# EAGLE library part LTC3557 (library SmartWatch)
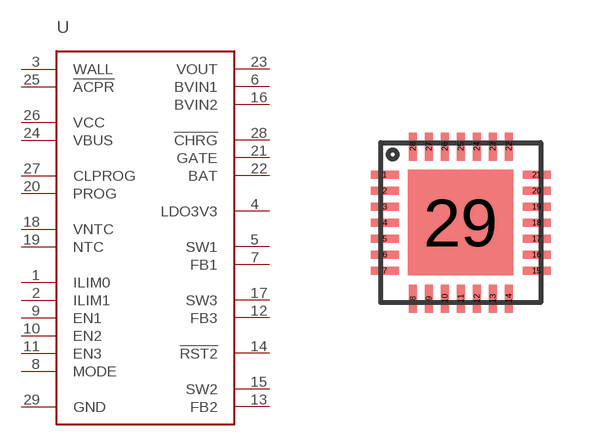
[diagram p4: symbol with the pads of 28QFN4X4; footprint 28QFN4X4]

Designator prefix -

## LTC3557  [28QFN4X4]
1  ILIM0
2  ILIM1
3  WALL
4  LDO3V3
5  SW1
6  BVIN1
7  FB1
8  MODE
9  EN1
10  EN2
11  EN3
12  FB3
13  FB2
14  !RST2
15  SW2
16  BVIN2
17  SW3
18  VNTC
19  NTC
20  PROG
21  GATE
22  BAT
23  VOUT
24  VBUS
25  !ACPR
26  VCC
27  CLPROG
28  !CHRG
29  GND

## Footprint 28QFN4X4 (pad centres in mm)
smd 0.7 x 0.2: 1 -1.9,1.2; 2 -1.9,0.8; 3 -1.9,0.4; 4 -1.9,0; 5 -1.9,-0.4; 6 -1.9,-0.8; 7 -1.9,-1.2; 15 1.9,-1.2; 16 1.9,-0.8; 17 1.9,-0.4; 18 1.9,0; 19 1.9,0.4; 20 1.9,0.8; 21 1.9,1.2
smd 0.2 x 0.7: 8 -1.2,-1.9; 9 -0.8,-1.9; 10 -0.4,-1.9; 11 0,-1.9; 12 0.4,-1.9; 13 0.8,-1.9; 14 1.2,-1.9; 22 1.2,1.9; 23 0.8,1.9; 24 0.4,1.9; 25 0,1.9; 26 -0.4,1.9; 27 -0.8,1.9; 28 -1.2,1.9
smd 2.64 x 2.64: 29 0,0